# Altium schematic symbol library JESC.SCHLIB: 61 symbols
Pins are listed as number, name and electrical type; pins without a type are passive.

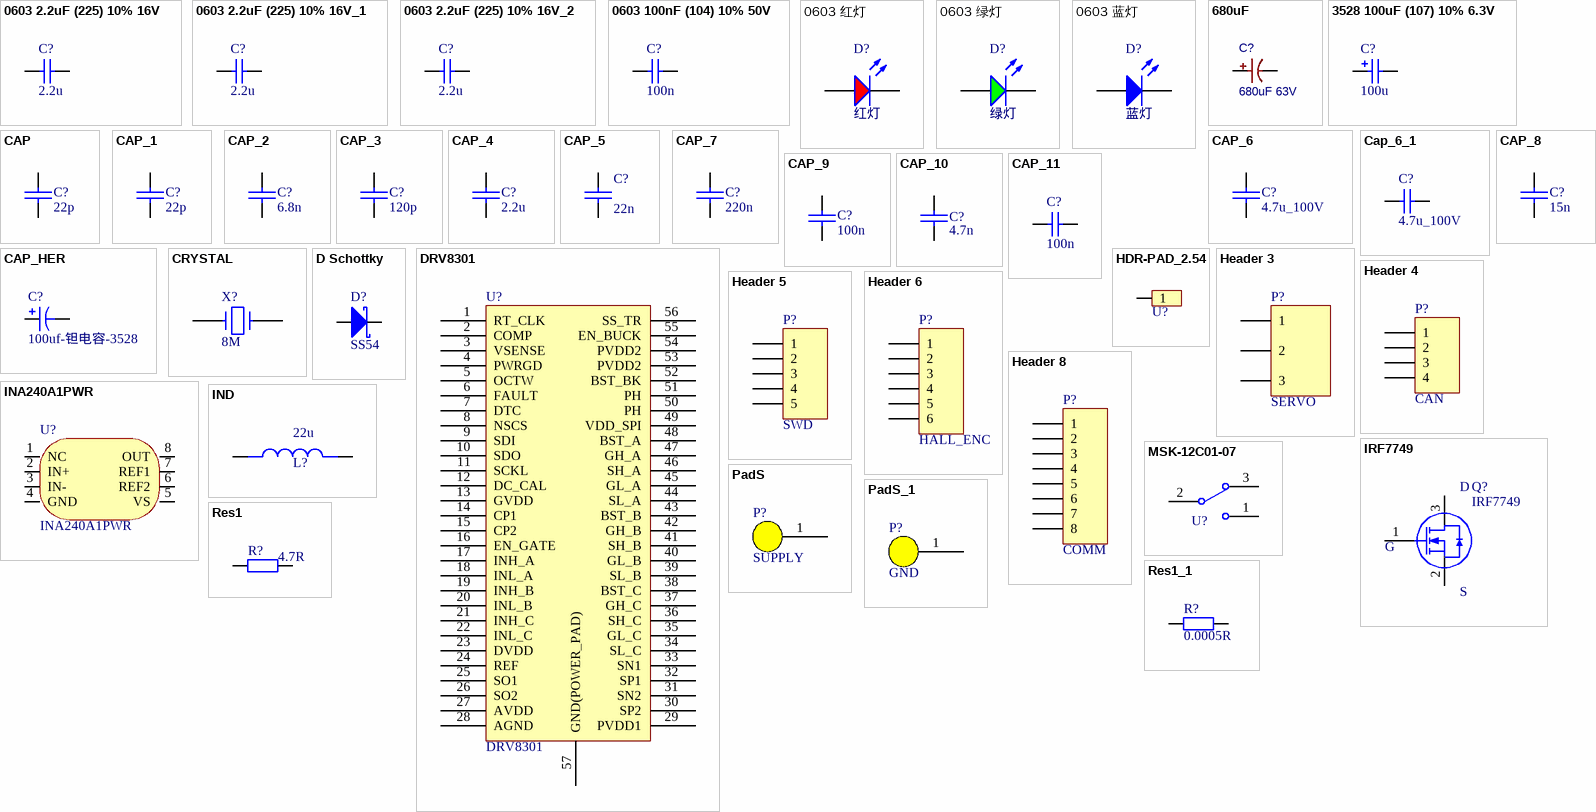
[diagram p0: symbols 0603 2.2uF (225) 10% 16V to Res1_1]

## 0603 2.2uF (225) 10% 16V
designator C?, comment 2.2u
贴片电容; ComponentLink1Description: 供应商链接; ComponentLink1URL: http://www.szlcsc.com/product/details_24366.html; Package: 0603; Supplier: LC; SuppliersPartNumber: C23630
footprint 0603_C
pins: 1, 2

## 0603 2.2uF (225) 10% 16V_1
designator C?, comment 2.2u
贴片电容; ComponentLink1Description: 供应商链接; ComponentLink1URL: http://www.szlcsc.com/product/details_24366.html; Package: 0603; Supplier: LC; SuppliersPartNumber: C23630
footprint 0603_C
footprint 0603_C
pins: 1, 2

## 0603 2.2uF (225) 10% 16V_2
designator C?, comment 2.2u
贴片电容; ComponentLink1Description: 供应商链接; ComponentLink1URL: http://www.szlcsc.com/product/details_24366.html; Package: 0603; Supplier: LC; SuppliersPartNumber: C23630
footprint 0603_C
pins: 1, 2

## 0603 100nF (104) 10% 50V
designator C?, comment 100n
贴片电容; ComponentLink1Description: 供应商链接; ComponentLink1URL: http://www.szlcsc.com/product/details_15331.html; Package: 0603; Supplier: LC; SuppliersPartNumber: C14663
footprint 0603_C
pins: 1, 2

## 0603 红灯
designator D?, comment 红灯
发光二极管; ComponentLink1Description: 供应商链接; ComponentLink1URL: http://www.szlcsc.com/product/details_2659.html; Package: 0603; Supplier: LC; SuppliersPartNumber: C2286
footprint 0603_LED_S1
footprint LED_0603_RED
footprint 0603_LED_S1
pins: A, K

## 0603 绿灯
designator D?, comment 绿灯
发光二极管; ComponentLink1Description: 供应商链接; ComponentLink1URL: http://www.szlcsc.com/product/details_73152.html; Package: 0603; Supplier: LC; SuppliersPartNumber: C72043
footprint 0603_LED_S1
pins: A, K

## 0603 蓝灯
designator D?, comment 蓝灯
发光二极管; ComponentLink1Description: 供应商链接; ComponentLink1URL: http://www.szlcsc.com/product/details_73150.html; Package: 0603; Supplier: LC; SuppliersPartNumber: C72041
footprint 0603_LED_S1
footprint 0603_LED_S1
pins: A, K

## 680uF
designator C?, comment 680uF 63V
BOM_Manufacturer: AISHI; BOM_Manufacturer Part: ERR1JM681W25OT; nameAlias: Capacitance; BOM_Supplier: LCSC; BOM_Supplier Part: C106632; spicePre: C; spiceSymbolName: ERR1JM681W25OT
footprint CAP-TH_BD12.5-P5.00-D1.2-FD
pins: 1, 2

## 3528 100uF (107) 10% 6.3V
designator C?, comment 100u
钽电容; ComponentLink1Description: 供应商链接; ComponentLink1URL: http://www.szlcsc.com/product/details_16815.html; Package: 3528; Supplier: LC; SuppliersPartNumber: C16133
footprint CASE-B_3528
footprint CASE-A_3216
pins: 1, 2

## CAP
designator C?  value 22p  (hidden comment: CAP)
22p
footprint 0603_C (Capacitor)
footprint 0805_C (Capacitor)
footprint 1206_C (Capacitor)
footprint 0402C
pins: 1, 2

## CAP_1
designator C?, comment value 22p  (hidden comment: CAP)
footprint 0603_C (Capacitor)
footprint 0805_C (Capacitor)
footprint 1206_C (Capacitor)
footprint 0402C
pins: 1, 2

## CAP_2
designator C?, comment value 6.8n  (hidden comment: CAP)
footprint 0603_C (Capacitor)
footprint 0805_C (Capacitor)
footprint 1206_C (Capacitor)
footprint 0402C
pins: 1, 2

## CAP_3
designator C?, comment value 120p  (hidden comment: CAP)
footprint 0603_C (Capacitor)
footprint 0805_C (Capacitor)
footprint 1206_C (Capacitor)
footprint 0402C
pins: 1, 2

## CAP_4
designator C?, comment value 2.2u  (hidden comment: CAP)
footprint 0603_C (Capacitor)
footprint 0805_C (Capacitor)
footprint 1206_C (Capacitor)
footprint 0402C
pins: 1, 2

## CAP_5
designator C?, comment value 22n  (hidden comment: CAP)
footprint 0603_C (Capacitor)
footprint 0805_C (Capacitor)
footprint 1206_C (Capacitor)
footprint 0402C
pins: 1, 2

## CAP_6
designator C?, comment value 4.7u_100V  (hidden comment: CAP)
footprint 0603_C (Capacitor)
footprint 0805_C (Capacitor)
footprint 1206_C (Capacitor)
footprint 1210_C
footprint 0402C
pins: 1, 2

## Cap_6_1
designator C?, comment value 4.7u_100V  (hidden comment: Cap)
无极性电容; Published: 8-Jun-2000; LatestRevisionDate: 17-Jul-2002; LatestRevisionNote: Re-released for DXP Platform.; PackageReference: RAD-0.3; Publisher: Altium Limited
footprint C-RAD (瓷片电容)
footprint C-RAD-0805 (贴片电容)
footprint 0603_C (Capacitor)
footprint 0603-2 (贴片无丝印)
footprint 0805-2 (贴片无丝印)
footprint C-RAD-3528 (贴片电容)
footprint 1210_C
footprint 1206_C (Capacitor)
pins: 1, 2

## CAP_7
designator C?, comment value 220n  (hidden comment: CAP)
footprint 0603_C (Capacitor)
footprint 0805_C (Capacitor)
footprint 1206_C (Capacitor)
footprint 0402C
pins: 1, 2

## CAP_8
designator C?, comment value 15n  (hidden comment: CAP)
footprint 0603_C (Capacitor)
footprint 0805_C (Capacitor)
footprint 1206_C (Capacitor)
footprint 0402C
pins: 1, 2

## CAP_9
designator C?, comment value 100n  (hidden comment: CAP)
footprint 0603_C (Capacitor)
footprint 0805_C (Capacitor)
footprint 1206_C (Capacitor)
footprint 0402C
pins: 1, 2

## CAP_10
designator C?, comment value 4.7n  (hidden comment: CAP)
footprint 0603_C (Capacitor)
footprint 0805_C (Capacitor)
footprint 1206_C (Capacitor)
footprint 0402C
pins: 1, 2

## CAP_11
designator C?, comment 100n
Capacitor; Value: 104; Published: 8-Jun-2000; LatestRevisionDate: 17-Jul-2002; LatestRevisionNote: Re-released for DXP Platform.; PackageReference: RAD-0.3; Publisher: Altium Limited
footprint 0603_C
pins: 1, 2

## CAP_HER
designator C?  value 100uf-钽电容-3528  (hidden comment: CAP_HER)
footprint CAP-1206 (贴片元件)
footprint CAP-3528 (钽电容)
footprint CAP-6032 (钽电容)
footprint CAP-8*16 (Connector; Header; 2 Position)
footprint CAP-3216 (钽电容)
footprint CAP-7343 (钽电容)
footprint CAP_ELEC_6.3x5.4 (Capacitor, polarized, aluminum can; 6.3x4.2mm DxH)
footprint CM D(6.3*5.4) (贴片电解电容，直径6.3mm，高5.4mm)
footprint CAP-SMD_L3.5-W2.8-R-RD (100uf)
footprint IND-SMD_L5.0-W5.0
footprint CAP-SMD_L3.5-W2.8-R-RD (100uf)
pins: 1, 2

## CRYSTAL
designator X?, comment 8M
Crystal
footprint XTAL-3
footprint XTAL-32768
footprint OSC 5032-2P (5mm*3.2mm*0.8mm(长*宽*高))
footprint XTAL_SMD5032
footprint 晶振 (XTAL_SMD5032)
pins: 1, 2

## D Schottky
designator D?, comment SS54
Schottky Diode; Published: 8-Jun-2000; LatestRevisionDate: 17-Jul-2002; LatestRevisionNote: Re-released for DXP Platform.; PackageReference: SMB; Publisher: Altium Limited; PackageDescription: DO-214-AA/SMB; 2 C-Bend Leads; Body 5.3 x 3.6 mm, inc. leads (LxW); Code_JEDEC: DO-214-AA
simulation model SKYDIODE (Diode)
signal-integrity model D Schottky
footprint DIODE_3*5.3
pins: 1 A, 2 K

## DRV8301
designator U?
三相整流桥芯片
footprint HTSSOP-56_L14.0-W6.0-P0.50-LS8.0-BL (DRV8301)
footprint DRV8301 (TSSOP, 56-Leads, Body 14.00x6.10mm, Pitch 0.50mm, Thermal Pad 7.11x3.61mm, IPC Low Density)
pins: 1 RT_CLK, 2 COMP, 3 VSENSE, 4 PWRGD, 5 OCTW, 6 FAULT, 7 DTC, 8 NSCS, 9 SDI, 10 SDO, 11 SCKL, 12 DC_CAL, 13 GVDD, 14 CP1, 15 CP2, 16 EN_GATE, 17 INH_A, 18 INL_A, 19 INH_B, 20 INL_B, 21 INH_C, 22 INL_C, 23 DVDD, 24 REF, 25 SO1, 26 SO2, 27 AVDD, 28 AGND, 29 PVDD1, 30 SP2, 31 SN2, 32 SP1, 33 SN1, 34 SL_C, 35 GL_C, 36 SH_C, 37 GH_C, 38 BST_C, 39 SL_B, 40 GL_B, 41 SH_B, 42 GH_B, 43 BST_B, 44 SL_A, 45 GL_A, 46 SH_A, 47 GH_A, 48 BST_A, 49 VDD_SPI, 50 PH, 51 PH, 52 BST_BK, 53 PVDD2, 54 PVDD2, 55 EN_BUCK, 56 SS_TR, 57 GND(POWER_PAD)

## HDR-PAD_2.54
designator U?, comment HDR-PAD  (value not drawn)
Header
footprint MOTOR_PAD
pins: 1

## Header 3
designator P?, comment SERVO
接插件; LatestRevisionDate: 17-Jul-2002; LatestRevisionNote: Re-released for DXP Platform.; Publisher: Altium Limited
footprint HDR3X1_B1 (Connector; Header; 3 Position)
footprint HDR3X1_A (Connector; Header; 3 Position)
footprint HDR3X1_C (3.81MM接插件)
footprint HDR3X1_D1 (5.08mm端子)
footprint HDR3X1_D2 (5.08mm端子)
footprint HDR3X1_B2 (Connector; Header; 3 Position)
footprint HDR3X1_B4 (Connector; Header; 4 Position)
footprint XH2.54-LI-3P (接插件，3P)
footprint CONN-SMD_3P-P1.25_XUNPU_WAFER-GH1.25-3PLB
pins: 1, 2, 3

## Header 4
designator P?, comment CAN
Header, 4-Pin; LatestRevisionDate: 17-Jul-2002; LatestRevisionNote: Re-released for DXP Platform.; Publisher: Altium Limited
footprint HDR1X4 (Connector; Header; 4 Position)
footprint XH_4_V
footprint XH2.54-LI-4P
footprint CONN-SMD_4P-P1.25_GH1.25-4PLI
pins: 1, 2, 3, 4

## Header 5
designator P?, comment SWD
Header, 5-Pin; LatestRevisionDate: 17-Jul-2002; LatestRevisionNote: Re-released for DXP Platform.; Publisher: Altium Limited
footprint XH2.54-LI-5P (接插件，5P)
footprint XH_5_V
footprint Model Name (Footprint not found)
footprint CONN-SMD_5P-P1.25_XUNPU_WAFER-GH1.25-5PLB
pins: 1, 2, 3, 4, 5

## Header 6
designator P?, comment HALL_ENC
Header, 6-Pin; LatestRevisionDate: 17-Jul-2002; LatestRevisionNote: Re-released for DXP Platform.; Publisher: Altium Limited
footprint HDR1X6 (Connector; Header; 6 Position)
footprint XH_6_V
footprint XH2.54-LI-6P (接插件，6P)
footprint CONN-SMD_6P-P1.25_WAFER-GH1.25-6PLB
pins: 1, 2, 3, 4, 5, 6

## Header 8
designator P?, comment COMM
Header, 8-Pin; LatestRevisionDate: 17-Jul-2002; LatestRevisionNote: Re-released for DXP Platform.; Publisher: Altium Limited
footprint HDR1X8 (Connector; Header; 8 Position)
signal-integrity model Connector
footprint XH2.54-LI-8P (接插件，8P)
footprint CONN-SMD_8P-P1.25_WAFER-GH1.25-8PLB
pins: 1, 2, 3, 4, 5, 6, 7, 8

## INA240A1PWR
designator U?
INA240 电压输出、高/低侧测量、双向零漂移系列; Manufacturer: TI(德州仪器); Add into BOM: yes; Name: INA240A1PWR; Symbol: INA240A1PWR; Device: INA240A1PWR; LCSC Part Name: INA240A1PWR; Supplier Part: C93965; Manufacturer Part: INA240A1PWR; Supplier Footprint: TSSOP-8_3x4.4x065P; JLCPCB Part Class: 扩展库; Datasheet: https://atta.szlcsc.com/upload/public/pdf/source/20180125/C93965_15168617716381301969.pdf; Supplier: LCSC; Convert to PCB: yes
footprint TSSOP-8_L4.4-W3.0-P0.65-LS6.4-BL
pins: 1 NC, 2 IN+, 3 IN-, 4 GND, 5 VS, 6 REF2, 7 REF1, 8 OUT

## IND
designator L?, comment 22u
footprint L_SOP74
footprint L_SOP127
footprint L_G_0810
footprint 0630 33uH
footprint L 0603 (贴片电感0603封装)
footprint 0603_R (Resistor)
footprint L-SMD-0630 (一体化成型电感)
footprint 22uHIND-SMD_L7.1-W6.6
footprint IND-SMD_L5.0-W5.0
pins: 1 Pri-, 2 Pri-

## IRF7749
designator Q?
MOS(场效应管)
footprint DIRECTFET_L9.1-W7.0_IRF7759L2TRPBF
footprint IRF7480
pins: 1 G, 2 S, 3 D

## MSK-12C01-07
designator U?  (value not drawn)
footprint MSK-12C01-07
pins: 1, 2, 3

## PadS
designator P?, comment SUPPLY
footprint Power Pad 6x6mm
pins: 1 15

## PadS_1
designator P?, comment GND
footprint Power Pad 6x6mm
pins: 1 15

## Res1
designator R?  value 4.7R  (hidden comment: Res1)
贴片电阻; Published: 8-Jun-2000; LatestRevisionDate: 17-Jul-2002; LatestRevisionNote: Re-released for DXP Platform.; PackageReference: AXIAL-0.4; Publisher: Altium Limited
footprint 0.5mr
pins: 1, 2

## Res1_1
designator R?, comment value 0.0005R  (hidden comment: Res1)
贴片电阻; Published: 8-Jun-2000; LatestRevisionDate: 17-Jul-2002; LatestRevisionNote: Re-released for DXP Platform.; PackageReference: AXIAL-0.4; Publisher: Altium Limited
footprint 0805-1 (贴片带丝印)
footprint 0805-2 (贴片无丝印)
footprint 0603_R (Resistor)
footprint 1210 (贴片元件)
footprint AXIAL-0.8 (Semiconductor Resistor; 2 Leads)
footprint 2010 (贴片电阻)
footprint 0603-2 (贴片无丝印)
footprint 1206
footprint 2512 (保险丝)
footprint 1812 (保险丝)
footprint AXIAL-0.9 (插件电阻)
footprint 0.5mr
footprint R3920
footprint 0.5mr_6W
pins: 1, 2

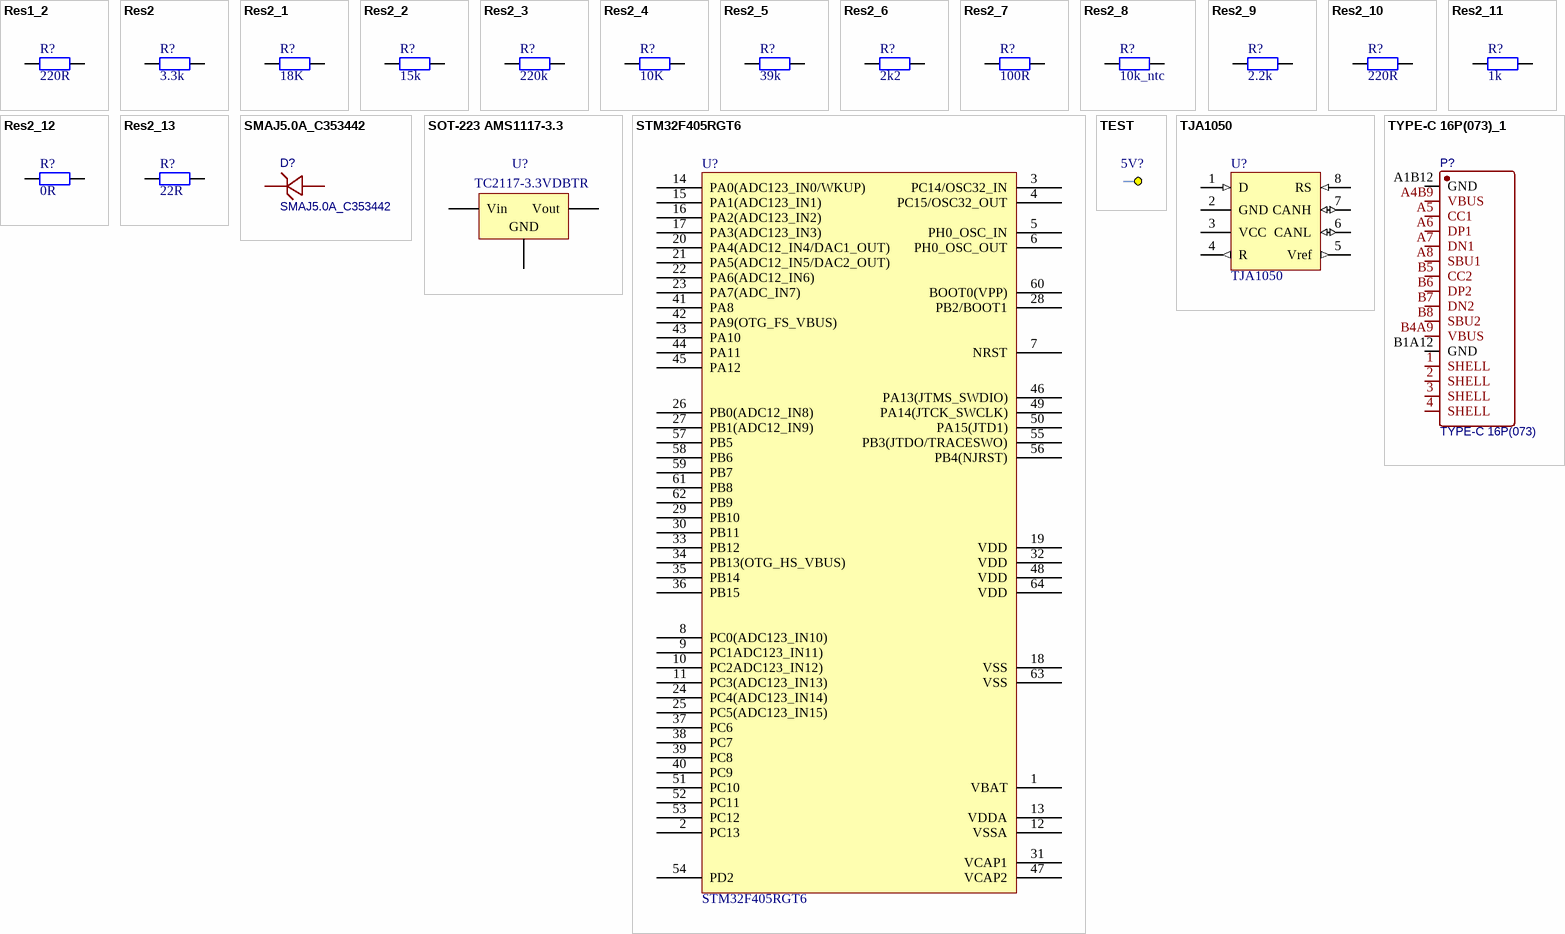
[diagram p1: symbols Res1_2 to TYPE-C 16P(073)_1]

## Res1_2
designator R?, comment value 220R  (hidden comment: Res1)
贴片电阻; Published: 8-Jun-2000; LatestRevisionDate: 17-Jul-2002; LatestRevisionNote: Re-released for DXP Platform.; PackageReference: AXIAL-0.4; Publisher: Altium Limited
footprint 0805-1 (贴片带丝印)
footprint 0805-2 (贴片无丝印)
footprint 0603_R (Resistor)
footprint 1210 (贴片元件)
footprint AXIAL-0.8 (Semiconductor Resistor; 2 Leads)
footprint 2010 (贴片电阻)
footprint 0603-2 (贴片无丝印)
footprint 1206
footprint 2512 (保险丝)
footprint 1812 (保险丝)
footprint AXIAL-0.9 (插件电阻)
footprint 0402R
pins: 1, 2

## Res2
designator R?, comment 3.3k
Resistor; Value: 10K; Published: 8-Jun-2000; LatestRevisionDate: 17-Jul-2002; LatestRevisionNote: Re-released for DXP Platform.; PackageReference: AXIAL-0.4; Publisher: Altium Limited; PackageDescription: Axial Device, Thru-Hole; 2 Leads; 0.4 in Pin Spacing
footprint 0805
simulation model RESISTOR (Resistor)
signal-integrity model Res
footprint 0603
footprint 0603-l
footprint 0402
footprint 0603_R (Resistor)
footprint 0402C
footprint 0402R
pins: 1, 2

## Res2_1
designator R?, comment 18K
Resistor; Value: 10K; Published: 8-Jun-2000; LatestRevisionDate: 17-Jul-2002; LatestRevisionNote: Re-released for DXP Platform.; PackageReference: AXIAL-0.4; Publisher: Altium Limited; PackageDescription: Axial Device, Thru-Hole; 2 Leads; 0.4 in Pin Spacing
footprint 0805
simulation model RESISTOR (Resistor)
signal-integrity model Res
footprint 0603
footprint 0603-l
footprint 0402
footprint 0603_R (Resistor)
footprint 0402C
footprint 0402R
pins: 1, 2

## Res2_2
designator R?, comment 15k
Resistor; Value: 10K; Published: 8-Jun-2000; LatestRevisionDate: 17-Jul-2002; LatestRevisionNote: Re-released for DXP Platform.; PackageReference: AXIAL-0.4; Publisher: Altium Limited; PackageDescription: Axial Device, Thru-Hole; 2 Leads; 0.4 in Pin Spacing
footprint 0805
simulation model RESISTOR (Resistor)
signal-integrity model Res
footprint 0603
footprint 0603-l
footprint 0402
footprint 0603_R (Resistor)
footprint 0402C
footprint 0402R
pins: 1, 2

## Res2_3
designator R?, comment 220k
Resistor; Value: 10K; Published: 8-Jun-2000; LatestRevisionDate: 17-Jul-2002; LatestRevisionNote: Re-released for DXP Platform.; PackageReference: AXIAL-0.4; Publisher: Altium Limited; PackageDescription: Axial Device, Thru-Hole; 2 Leads; 0.4 in Pin Spacing
footprint 0805
simulation model RESISTOR (Resistor)
signal-integrity model Res
footprint 0603
footprint 0603-l
footprint 0402
footprint 0603_R (Resistor)
footprint 0402C
footprint 0402R
pins: 1, 2

## Res2_4
designator R?, comment 10K
Resistor; Published: 8-Jun-2000; LatestRevisionDate: 17-Jul-2002; LatestRevisionNote: Re-released for DXP Platform.; PackageReference: AXIAL-0.4; Publisher: Altium Limited; PackageDescription: Axial Device, Thru-Hole; 2 Leads; 0.4 in Pin Spacing; Value: 10K
footprint 0805
simulation model RESISTOR (Resistor)
signal-integrity model Res
footprint 0603
footprint 0603-l
footprint 0402
footprint 0603_R (Resistor)
footprint 0402C
footprint 0402R
pins: 1, 2

## Res2_5
designator R?, comment 39k
Resistor; Value: 10K; Published: 8-Jun-2000; LatestRevisionDate: 17-Jul-2002; LatestRevisionNote: Re-released for DXP Platform.; PackageReference: AXIAL-0.4; Publisher: Altium Limited; PackageDescription: Axial Device, Thru-Hole; 2 Leads; 0.4 in Pin Spacing
footprint 0805
simulation model RESISTOR (Resistor)
signal-integrity model Res
footprint 0603
footprint 0603-l
footprint 0402
footprint 0603_R (Resistor)
footprint 0805_R (Resistor)
footprint 0402R
pins: 1, 2

## Res2_6
designator R?, comment 2k2
Resistor; Value: 10K; Published: 8-Jun-2000; LatestRevisionDate: 17-Jul-2002; LatestRevisionNote: Re-released for DXP Platform.; PackageReference: AXIAL-0.4; Publisher: Altium Limited; PackageDescription: Axial Device, Thru-Hole; 2 Leads; 0.4 in Pin Spacing
footprint 0805
simulation model RESISTOR (Resistor)
signal-integrity model Res
footprint 0603
footprint 0603-l
footprint 0402
footprint 0603_R (Resistor)
footprint 0805_R (Resistor)
footprint 0402R
pins: 1, 2

## Res2_7
designator R?, comment 100R
Resistor; Value: 10K; Published: 8-Jun-2000; LatestRevisionDate: 17-Jul-2002; LatestRevisionNote: Re-released for DXP Platform.; PackageReference: AXIAL-0.4; Publisher: Altium Limited; PackageDescription: Axial Device, Thru-Hole; 2 Leads; 0.4 in Pin Spacing
footprint 0805
simulation model RESISTOR (Resistor)
signal-integrity model Res
footprint 0603
footprint 0603-l
footprint 0402
footprint 0603_R (Resistor)
footprint 0805_R (Resistor)
footprint 0402R
pins: 1, 2

## Res2_8
designator R?, comment 10k_ntc
Resistor; Value: 10K; Published: 8-Jun-2000; LatestRevisionDate: 17-Jul-2002; LatestRevisionNote: Re-released for DXP Platform.; PackageReference: AXIAL-0.4; Publisher: Altium Limited; PackageDescription: Axial Device, Thru-Hole; 2 Leads; 0.4 in Pin Spacing
footprint 0805
simulation model RESISTOR (Resistor)
signal-integrity model Res
footprint 0603
footprint 0603-l
footprint 0402
footprint 0603_R (Resistor)
footprint 0805_R (Resistor)
footprint 0402R
pins: 1, 2

## Res2_9
designator R?, comment 2.2k
Resistor; Value: 10K; Published: 8-Jun-2000; LatestRevisionDate: 17-Jul-2002; LatestRevisionNote: Re-released for DXP Platform.; PackageReference: AXIAL-0.4; Publisher: Altium Limited; PackageDescription: Axial Device, Thru-Hole; 2 Leads; 0.4 in Pin Spacing
footprint 0805
simulation model RESISTOR (Resistor)
signal-integrity model Res
footprint 0603
footprint 0603-l
footprint 0402
footprint 0603_R (Resistor)
footprint 0805_R (Resistor)
footprint 0402R
pins: 1, 2

## Res2_10
designator R?, comment 220R
Resistor; Value: 10K; Published: 8-Jun-2000; LatestRevisionDate: 17-Jul-2002; LatestRevisionNote: Re-released for DXP Platform.; PackageReference: AXIAL-0.4; Publisher: Altium Limited; PackageDescription: Axial Device, Thru-Hole; 2 Leads; 0.4 in Pin Spacing
footprint 0805
simulation model RESISTOR (Resistor)
signal-integrity model Res
footprint 0603
footprint 0603-l
footprint 0402
footprint 0603_R (Resistor)
footprint 0402C
footprint 0402R
pins: 1, 2

## Res2_11
designator R?, comment 1k
Resistor; Value: 10K; Published: 8-Jun-2000; LatestRevisionDate: 17-Jul-2002; LatestRevisionNote: Re-released for DXP Platform.; PackageReference: AXIAL-0.4; Publisher: Altium Limited; PackageDescription: Axial Device, Thru-Hole; 2 Leads; 0.4 in Pin Spacing
footprint 0805
simulation model RESISTOR (Resistor)
signal-integrity model Res
footprint 0603
footprint 0603-l
footprint 0402
footprint 0603_R (Resistor)
footprint 0402C
footprint 0402R
pins: 1, 2

## Res2_12
designator R?, comment 0R
Resistor; Value: 10K; Published: 8-Jun-2000; LatestRevisionDate: 17-Jul-2002; LatestRevisionNote: Re-released for DXP Platform.; PackageReference: AXIAL-0.4; Publisher: Altium Limited; PackageDescription: Axial Device, Thru-Hole; 2 Leads; 0.4 in Pin Spacing
footprint 0805
simulation model RESISTOR (Resistor)
signal-integrity model Res
footprint 0603
footprint 0603-l
footprint 0402
footprint 0603_R (Resistor)
footprint 0402C
footprint 0402R
pins: 1, 2

## Res2_13
designator R?, comment 22R
Resistor; Value: 10K; Published: 8-Jun-2000; LatestRevisionDate: 17-Jul-2002; LatestRevisionNote: Re-released for DXP Platform.; PackageReference: AXIAL-0.4; Publisher: Altium Limited; PackageDescription: Axial Device, Thru-Hole; 2 Leads; 0.4 in Pin Spacing
footprint 0805
simulation model RESISTOR (Resistor)
signal-integrity model Res
footprint 0603
footprint 0603-l
footprint 0402
footprint 0603_R (Resistor)
footprint 0402C
footprint 0402R
pins: 1, 2

## SMAJ5.0A_C353442
designator D?
BOM_Manufacturer: Shandong Jingdao Microelectronics; Contributor: LCSC; BOM_Supplier: LCSC; BOM_Supplier Part: C353442; BOM_Manufacturer Part: SMAJ5.0A; spicePre: D; spiceSymbolName: SMAJ5.0A_C353442
footprint SMA_L4.4-W2.8-LS5.4-RD
pins: 1 C, 2 A

## SOT-223 AMS1117-3.3
designator U?, comment TC2117-3.3VDBTR
低压差线性稳压(LDO); ComponentLink1Description: 供应商链接; ComponentLink1URL: http://www.szlcsc.com/product/details_6652.html; Package: SOT-223; Supplier: LC; SuppliersPartNumber: C6186
footprint SOT-223
pins: 1 GND, 2 Vout, 3 Vin

## STM32F405RGT6
designator U?
footprint LQFP64 (TSQFP, 64-Leads, Body 10.00x10.00mm, Pitch 0.50mm, IPC Low Density)
footprint LQFP-64_10x10x05P
pins: 1 VBAT, 2 PC13, 3 PC14/OSC32_IN, 4 PC15/OSC32_OUT, 5 PH0_OSC_IN, 6 PH0_OSC_OUT, 7 NRST, 8 PC0(ADC123_IN10), 9 PC1ADC123_IN11), 10 PC2ADC123_IN12), 11 PC3(ADC123_IN13), 12 VSSA, 13 VDDA, 14 PA0(ADC123_IN0/WKUP), 15 PA1(ADC123_IN1), 16 PA2(ADC123_IN2), 17 PA3(ADC123_IN3), 18 VSS, 19 VDD, 20 PA4(ADC12_IN4/DAC1_OUT), 21 PA5(ADC12_IN5/DAC2_OUT), 22 PA6(ADC12_IN6), 23 PA7(ADC_IN7), 24 PC4(ADC123_IN14), 25 PC5(ADC123_IN15), 26 PB0(ADC12_IN8), 27 PB1(ADC12_IN9), 28 PB2/BOOT1, 29 PB10, 30 PB11, 31 VCAP1, 32 VDD, 33 PB12, 34 PB13(OTG_HS_VBUS), 35 PB14, 36 PB15, 37 PC6, 38 PC7, 39 PC8, 40 PC9, 41 PA8, 42 PA9(OTG_FS_VBUS), 43 PA10, 44 PA11, 45 PA12, 46 PA13(JTMS_SWDIO), 47 VCAP2, 48 VDD, 49 PA14(JTCK_SWCLK), 50 PA15(JTD1), 51 PC10, 52 PC11, 53 PC12, 54 PD2, 55 PB3(JTDO/TRACESWO), 56 PB4(NJRST), 57 PB5, 58 PB6, 59 PB7, 60 BOOT0(VPP), 61 PB8, 62 PB9, 63 VSS, 64 VDD

## TEST
designator 5V?  (value not drawn)  (no BOM)
测试点
footprint TEST_2mm (2mm)
pins: 1
2 alternate drawings of the same symbol

## TJA1050
designator U?
footprint TJA1050
pins: 1 D (in), 2 GND, 3 VCC, 4 R (out), 5 Vref (out), 6 CANL (io), 7 CANH (io), 8 RS (in)

## TYPE-C 16P(073)_1
designator P?, comment TYPE-C 16P(073)
BOM_Manufacturer: SHOU HAN; Contributor: LCSC; BOM_Supplier: LCSC; BOM_Supplier Part: C668624; BOM_Manufacturer Part: TYPE-C 16P(073); spicePre: U; spiceSymbolName: TYPE-C 16P(073)
footprint USB-C-SMD_16P - duplicate2
pins: 1 SHELL, 2 SHELL, 3 SHELL, 4 SHELL, A1B12 GND, A4B9 VBUS, A5 CC1, A6 DP1, A7 DN1, A8 SBU1, B1A12 GND, B4A9 VBUS, B5 CC2, B6 DP2, B7 DN2, B8 SBU2